# Altium footprint library 53398-0771.PcbLib: 1 footprints
Each footprint in its own frame and in the unit in brackets; x right, y up, seen from the top. Pads: shape width x height; smd on the part's side, far side on the other; paste and mask are expansions set on the pad; w line width, h text height; cw(c..) or ccw(c..) is an arc to the next point about the centre after c.
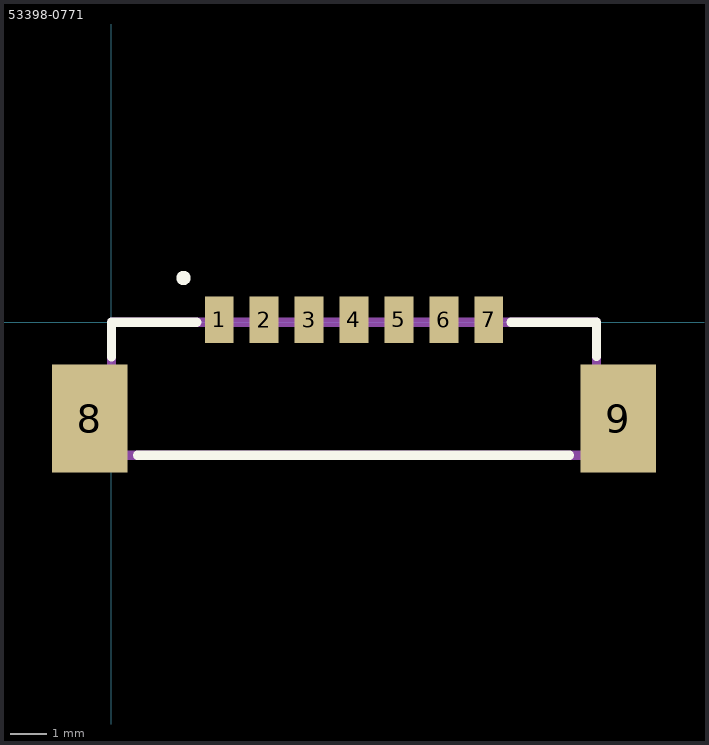
[diagram p0: the footprint, top view; thin cyan lines are the x and y axes]

## 53398-0771 [mm]
pads (9):
  rect 0.8x1.3 smd: 1(3,0.068) 2(4.25,0.068) 3(5.5,0.068) 4(6.75,0.068) 5(8,0.068) 6(9.25,0.068) 7(10.5,0.068)
  rect 2.1x3 smd: 8(-0.6,-2.682) 9(14.1,-2.682)
L26-Silk Screen Top (Multiple PADS layers...):
  circle w0.254: c2.007,1.232 r0.071
  lines w0.254: 0,-0.963 0,0 2.375,0 ; 0.733,-3.7 12.741,-3.7 ; 11.112,0 13.5,0 13.5,-0.949
L15 (Multiple PADS layers...):
  lines w0.254: 0,-3.7 13.5,-3.7 13.5,0 0,0 0,-3.7